# Altium schematic symbol library ACPL-K376-500E.SchLib: 1 symbol
Pins are listed as number, name and electrical type; pins without a type are passive.

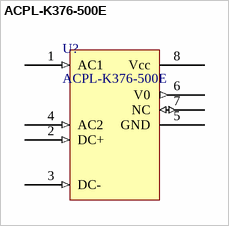
[diagram p0: symbol ACPL-K376-500E]

## ACPL-K376-500E
designator U?
footprint ACPL-K376-500E (SOIC, 8-Leads, Body 6.81x5.85mm, Pitch 1.27mm, IPC Medium Density)
pins: 1 AC1 (in), 2 DC+ (in), 3 DC- (in), 4 AC2 (in), 5 GND (power), 6 V0 (out), 7 NC (io), 8 Vcc (power)